# Altium footprint library PCB - LEADLESS - SON - TI X2SON-4 DQN0004A.PCBLIB: 1 footprints
Each footprint in its own frame and in the unit in brackets; x right, y up, seen from the top. Pads: shape width x height; smd on the part's side, far side on the other; paste and mask are expansions set on the pad; w line width, h text height; cw(c..) or ccw(c..) is an arc to the next point about the centre after c.
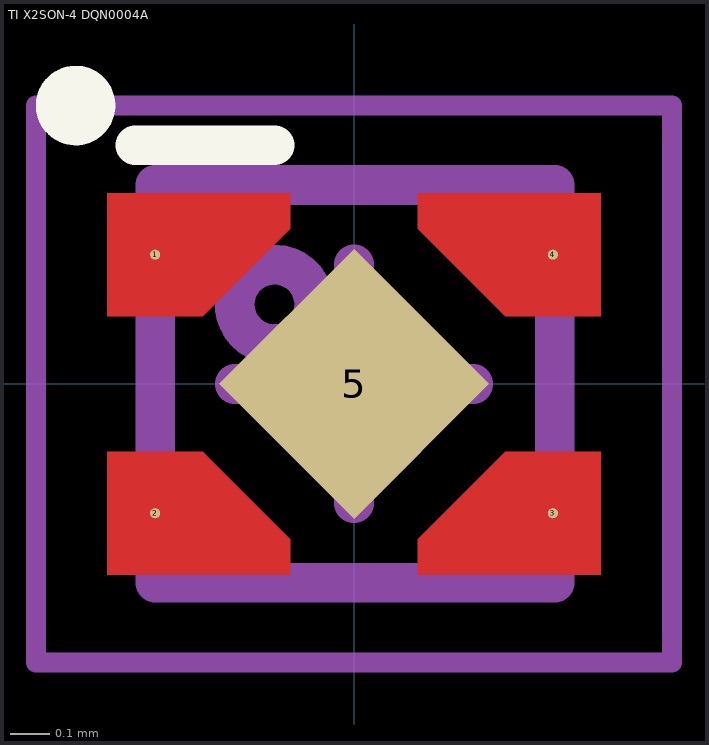
[diagram p0: the footprint, top view; thin cyan lines are the x and y axes]

## TI X2SON-4 DQN0004A [mm] "X2SON, 4-Leads, Body 1.00x1.00mm, Pitch 0.65mm, Thermal Pad 0.48x0.48mm"
height 0.4
pads (5):
  round 0.025 smd paste+0 mask+0.05: 1(-0.5,0.325) 2(-0.5,-0.325) 3(0.5,-0.325) 4(0.5,0.325)
  rect 0.48x0.48 smd rot 45 paste+0 mask+0.05: 5(0,0)
Top Layer:
  region: -0.62,0.17 -0.62,0.48 -0.16,0.48 -0.16,0.39 -0.38,0.17 -0.53,0.17
  region: -0.62,-0.17 -0.62,-0.48 -0.16,-0.48 -0.16,-0.39 -0.38,-0.17 -0.53,-0.17
  region: 0.62,-0.17 0.62,-0.48 0.16,-0.48 0.16,-0.39 0.38,-0.17 0.53,-0.17
  region: 0.62,0.17 0.62,0.48 0.16,0.48 0.16,0.39 0.38,0.17 0.53,0.17
Top Overlay:
  circle w0.1: c-0.7,0.7 r0.05
  lines w0.1: -0.55,0.6 -0.2,0.6
Mechanical 13:
  circle w0.1: c-0.2,0.2 r0.1
  lines w0.1: -0.5,-0.5 0.505,-0.5 0.505,0.5 -0.5,0.5 -0.5,-0.5
Mechanical 15:
  lines w0.05: -0.8,-0.7 0.8,-0.7 0.8,0.7 -0.8,0.7 -0.8,-0.7
  lines w0.1: -0.3,0 0.3,0 ; 0,-0.3 0,0.3
3D body "TI - X2SON-4 DQN0004A v0.step": height 0.4, standoff 0, extent -0.505,-0.5 0.505,0.5